# Altium footprint library Seeed-OPL-Connector.PCBLIB: 183 footprints (part 8 of 12)
Each footprint in its own frame and in the unit in brackets; x right, y up, seen from the top. Pads: shape width x height; smd on the part's side, far side on the other; paste and mask are expansions set on the pad; w line width, h text height; cw(c..) or ccw(c..) is an arc to the next point about the centre after c.
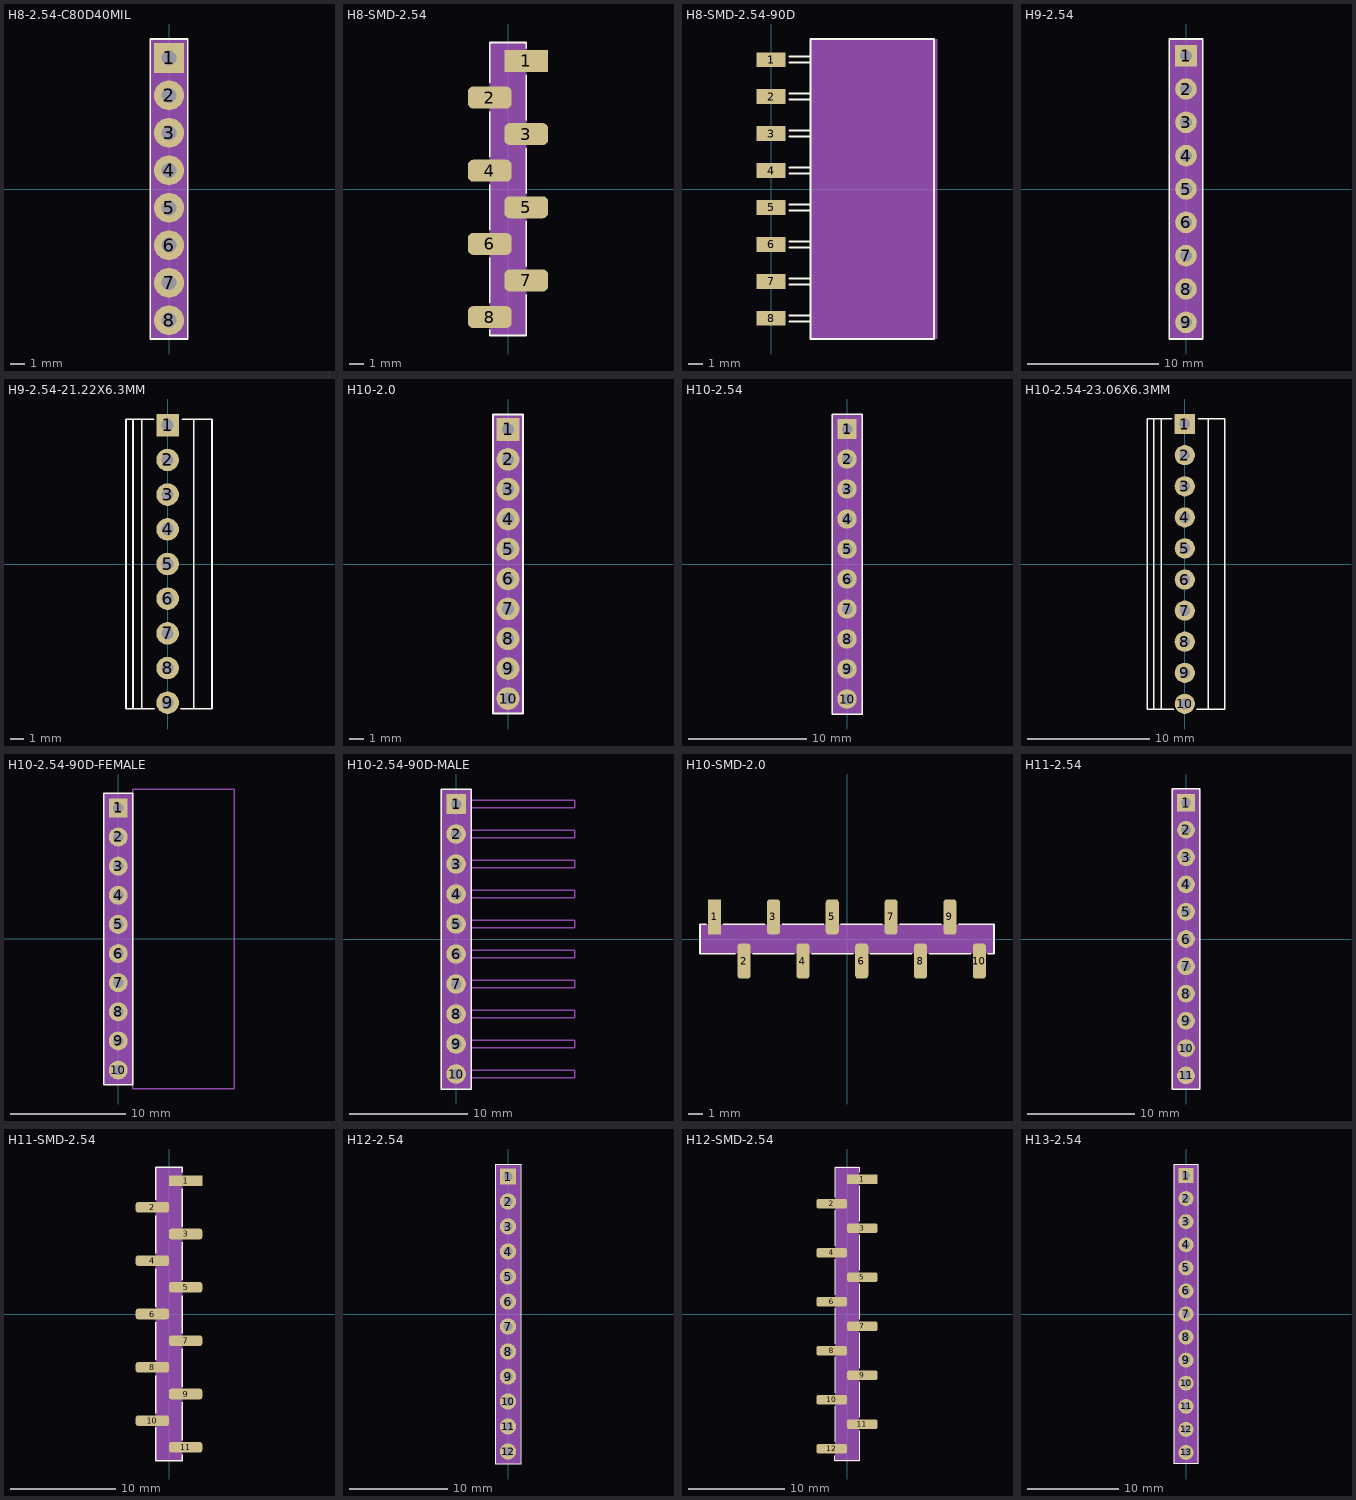
[diagram p7: the footprints below, top view; thin cyan lines are the x and y axes]

## H8-2.54-C80D40MIL [mil]
pads (8):
  rect 80x80 hole 40: 1(0,350)
  round 80 hole 40: 2(0,250) 3(0,150) 4(0,50) 5(0,-50) 6(0,-150) 7(0,-250) 8(0,-350)
Top Overlay:
  lines w5: -50,-400 50,-400 50,400 -50,400 -50,-400
Mechanical 27:
  rectangle: -50,-400 50,400

## H8-SMD-2.54 [mil]
pads (8):
  rect 120x60 smd: 1(50,350)
  rrect50% 120x60 smd: 2(-50,250) 3(50,150) 4(-50,50) 5(50,-50) 6(-50,-150) 7(50,-250) 8(-50,-350)
Top Overlay:
  lines w5: -50,-385.83 -50,-400 50,-400 ; -50,-311.02 -50,-188.98 ; -50,-111.02 -50,11.02 ; -50,88.98 -50,211.02 ; -50,291.34 -50,400 50,400 50,385.83 ; 50,-398.03 50,-289.37 ; 50,-211.02 50,-88.98 ; 50,-11.02 50,111.02 ; 50,188.98 50,311.02
Mechanical 27:
  rectangle: -50,-400 50,400

## H8-SMD-2.54-90D [mm]
pads (8):
  rect 2x1 smd: 1(0,8.89) 2(0,6.35) 3(0,3.81) 4(0,1.27) 5(0,-1.27) 6(0,-3.81) 7(0,-6.35) 8(0,-8.89)
Top Overlay:
  lines w0.127: 1.27,-9.09 2.7,-9.09 ; 1.27,-8.69 2.7,-8.69 ; 1.27,-6.55 2.7,-6.55 ; 1.27,-6.15 2.7,-6.15 ; 1.27,-4.01 2.7,-4.01 ; 1.27,-3.61 2.7,-3.61 ; 1.27,-1.47 2.7,-1.47 ; 1.27,-1.07 2.7,-1.07 ; 1.27,1.07 2.7,1.07 ; 1.27,1.47 2.7,1.47 ; 1.27,3.61 2.7,3.61 ; 1.27,4.01 2.7,4.01 ; 1.27,6.15 2.7,6.15 ; 1.27,6.55 2.7,6.55 ; 1.27,8.69 2.7,8.69 ; 1.27,9.09 2.7,9.09 ; 2.7,-10.3 2.7,10.3 11.2,10.3 11.2,-10.3 2.7,-10.3
Mechanical 27:
  rectangle: 2.7,-10.3 11.43,10.3

## H9-2.54 [mil]
pads (9):
  rect 65x65 hole 35: 1(0,400)
  round 65 hole 35: 2(0,300) 3(0,200) 4(0,100) 5(0,0) 6(0,-100) 7(0,-200) 8(0,-300) 9(0,-400)
Top Overlay:
  lines w5: -50,-450 50,-450 50,450 -50,450 -50,-450
Mechanical 27:
  rectangle: -50,-450 50,450

## H9-2.54-21.22X6.3MM [mil]
pads (9):
  rect 65x65 hole 35: 1(0,400)
  round 65 hole 35: 2(0,300) 3(0,200) 4(0,100) 5(0,0) 6(0,-100) 7(0,-200) 8(0,-300) 9(0,-400)
Top Overlay:
  lines w5: -74.8,-417.72 -39.37,-417.72 ; -40.55,417.72 -75,417.72 ; 38.19,-417.72 73.62,-417.72 ; 41.93,417.72 75,417.72 ; -100,-417.72 -120.08,-417.72 -120.08,417.72 -100,417.72 ; -100,-417.72 -75,-417.72 -75,417.72 ; -100,-417.72 -100,417.72 ; -100,417.72 -75,417.72 ; 75,417.72 76.38,417.72 127.95,417.72 127.95,-417.72 75,-417.72 75,417.72

## H10-2.0 [mil]
pads (10):
  rect 60x60 hole 32: 1(0,354.33)
  round 60 hole 32: 2(0,275.59) 3(0,196.85) 4(0,118.11) 5(0,39.37) 6(0,-39.37) 7(0,-118.11) 8(0,-196.85) 9(0,-275.59) 10(0,-354.33)
Top Overlay:
  lines w5: -39.37,-393.7 39.37,-393.7 39.37,393.7 -39.37,393.7 -39.37,-393.7
Mechanical 27:
  rectangle: -40,-395 40,395

## H10-2.54 [mil]
pads (10):
  rect 65x65 hole 35: 1(0,450)
  round 65 hole 35: 2(0,350) 3(0,250) 4(0,150) 5(0,50) 6(0,-50) 7(0,-150) 8(0,-250) 9(0,-350) 10(0,-450)
Top Overlay:
  lines w5: -50,-500 50,-500 50,500 -50,500 -50,-500
Mechanical 27:
  rectangle: -50,-500 50,500
  lines w0: -50,-500 50,-500 50,500 -50,500 -50,-500

## H10-2.54-23.06X6.3MM [mil]
pads (10):
  rect 65x65 hole 35: 1(0,450)
  round 65 hole 35: 2(0,350) 3(0,250) 4(0,150) 5(0,50) 6(0,-50) 7(0,-150) 8(0,-250) 9(0,-350) 10(0,-450)
Top Overlay:
  lines w5: -74.8,-467.72 -35.43,-467.72 ; -73.62,467.72 -41.93,467.72 ; 38.19,-467.72 75,-467.72 ; 43.31,467.72 75,467.72 ; -100,-467.72 -120.08,-467.72 -120.08,467.72 -100,467.72 ; -100,-467.72 -75,-467.72 -75,467.72 -100,467.72 ; -100,-467.72 -100,467.72 ; 75,-467.72 127.95,-467.72 127.95,467.72 75,467.72 ; 75,-467.72 75,467.72

## H10-2.54-90D-FEMALE [mil]
pads (10):
  rect 65x65 hole 35: 1(0,450)
  round 65 hole 35: 2(0,350) 3(0,250) 4(0,150) 5(0,50) 6(0,-50) 7(0,-150) 8(0,-250) 9(0,-350) 10(0,-450)
Top Overlay:
  lines w5: -50,-500 50,-500 50,500 -50,500 -50,-500
Mechanical 14:
  lines w5: 50,-0.24 50,-515 398.43,-515 398.43,-0.24 ; 50,0 50,514.76 398.43,514.76 398.43,0
Mechanical 27:
  rectangle: -50,-500 50,500
  lines w0: -50,-500 50,-500 50,500 -50,500 -50,-500

## H10-2.54-90D-MALE [mil]
pads (10):
  rect 65x65 hole 35: 1(0,450)
  round 65 hole 35: 2(0,350) 3(0,250) 4(0,150) 5(0,50) 6(0,-50) 7(0,-150) 8(0,-250) 9(0,-350) 10(0,-450)
Top Overlay:
  lines w5: -50,-500 50,-500 50,500 -50,500 -50,-500
Mechanical 14:
  lines w5: 50,-462.6 50,-437.4 396.06,-437.4 396.06,-462.6 50,-462.6 ; 50,-362.6 50,-337.4 396.06,-337.4 396.06,-362.6 50,-362.6 ; 50,-262.6 50,-237.4 396.06,-237.4 396.06,-262.6 50,-262.6 ; 50,-162.6 50,-137.4 396.06,-137.4 396.06,-162.6 50,-162.6 ; 50,-62.6 50,-37.4 396.06,-37.4 396.06,-62.6 50,-62.6 ; 50,37.4 50,62.6 396.06,62.6 396.06,37.4 50,37.4 ; 50,137.4 50,162.6 396.06,162.6 396.06,137.4 50,137.4 ; 50,237.4 50,262.6 396.06,262.6 396.06,237.4 50,237.4 ; 50,337.4 50,362.6 396.06,362.6 396.06,337.4 50,337.4 ; 50,437.4 50,462.6 396.06,462.6 396.06,437.4 50,437.4
Mechanical 27:
  rectangle: -50,-500 50,500
  lines w0: -50,-500 50,-500 50,500 -50,500 -50,-500

## H10-SMD-2.0 [mm]
pads (10):
  rect 0.89x2.4 smd: 1(-9,1.5)
  rrect50% 0.89x2.4 smd: 2(-7,-1.5) 3(-5,1.5) 4(-3,-1.5) 5(-1,1.5) 6(1,-1.5) 7(3,1.5) 8(5,-1.5) 9(7,1.5) 10(9,-1.5)
Top Overlay:
  lines w0.127: -9.6,1 -10,1 -10,-1 -7.6,-1 ; -8.4,1 -5.6,1 ; -6.4,-1 -3.6,-1 ; -4.4,1 -1.6,1 ; -2.4,-1 0.4,-1 ; -0.4,1 2.4,1 ; 1.6,-1 4.4,-1 ; 3.6,1 6.4,1 ; 5.6,-1 8.4,-1 ; 7.6,1 10,1 10,-1 9.6,-1
Mechanical 27:
  rectangle: -10,-1 10,1

## H11-2.54 [mil]
pads (11):
  rect 65x65 hole 35: 1(0,500)
  round 65 hole 35: 2(0,400) 3(0,300) 4(0,200) 5(0,100) 6(0,0) 7(0,-100) 8(0,-200) 9(0,-300) 10(0,-400) 11(0,-500)
Top Overlay:
  lines w5: -50,-550 50,-550 50,550 -50,550 -50,-550
Mechanical 27:
  rectangle: -50,-550 50,550
  lines w0: -50,-550 50,-550 50,550 -50,550 -50,-550

## H11-SMD-2.54 [mil]
pads (11):
  rect 124.8x40.16 smd: 1(62.4,500)
  rrect50% 124.8x40.16 smd: 2(-62.4,400) 3(62.4,300) 4(-62.4,200) 5(62.4,100) 6(-62.4,0) 7(62.4,-100) 8(-62.4,-200) 9(62.4,-300) 10(-62.4,-400) 11(62.4,-500)
Top Overlay:
  lines w5: -50,-425.2 -50,-550 50,-550 50,-527.56 ; -50,-372.44 -50,-230.71 ; -50,-172.44 -50,-30.71 ; -50,27.56 -50,169.29 ; -50,227.56 -50,369.29 ; -50,427.56 -50,550 50,550 50,531.5 ; 50,-472.44 50,-330.71 ; 50,-272.44 50,-130.71 ; 50,-72.44 50,69.29 ; 50,127.56 50,269.29 ; 50,327.56 50,469.29
Mechanical 27:
  rectangle: -50,-551.18 50,551.18

## H12-2.54 [mil]
pads (12):
  rect 65x65 hole 35: 1(0,550)
  round 65 hole 35: 2(0,450) 3(0,350) 4(0,250) 5(0,150) 6(0,50) 7(0,-50) 8(0,-150) 9(0,-250) 10(0,-350) 11(0,-450) 12(0,-550)
Top Overlay:
  lines w5: -50,-600 50,-600 50,600 -50,600 -50,-600
Mechanical 27:
  rectangle: -50,-600 50,600

## H12-SMD-2.54 [mil]
pads (12):
  rect 124.8x40.16 smd: 1(62.4,550)
  rrect50% 124.8x40.16 smd: 2(-62.4,450) 3(62.4,350) 4(-62.4,250) 5(62.4,150) 6(-62.4,50) 7(62.4,-50) 8(-62.4,-150) 9(62.4,-250) 10(-62.4,-350) 11(62.4,-450) 12(-62.4,-550)
Top Overlay:
  lines w5: -50,-578.74 -50,-600 50,-600 50,-476.38 ; -50,-522.05 -50,-376.38 ; -50,-322.05 -50,-176.38 ; -50,-122.05 -50,23.62 ; -50,77.95 -50,223.62 ; -50,277.95 -50,423.62 ; -50,476.38 -50,600 50,600 50,578.74 ; 50,-422.05 50,-276.38 ; 50,-222.05 50,-76.38 ; 50,-22.05 50,123.62 ; 50,177.95 50,323.62 ; 50,377.95 50,523.62
Mechanical 27:
  rectangle: -50,-601.18 50,601.18

## H13-2.54 [mil]
pads (13):
  rect 65x65 hole 35: 1(0,600)
  round 65 hole 35: 2(0,500) 3(0,400) 4(0,300) 5(0,200) 6(0,100) 7(0,0) 8(0,-100) 9(0,-200) 10(0,-300) 11(0,-400) 12(0,-500) 13(0,-600)
Top Overlay:
  lines w5: -50,-650 50,-650 50,650 -50,650 -50,-650
Mechanical 27:
  rectangle: -50,-650 50,650
  lines w0: -50,-650 50,-650 50,650 -50,650 -50,-650